# EAGLE library part MM74HC174M (library Fairchild_By_element14_Batch_1)
Hex D-Type Flip-Flops with Clear
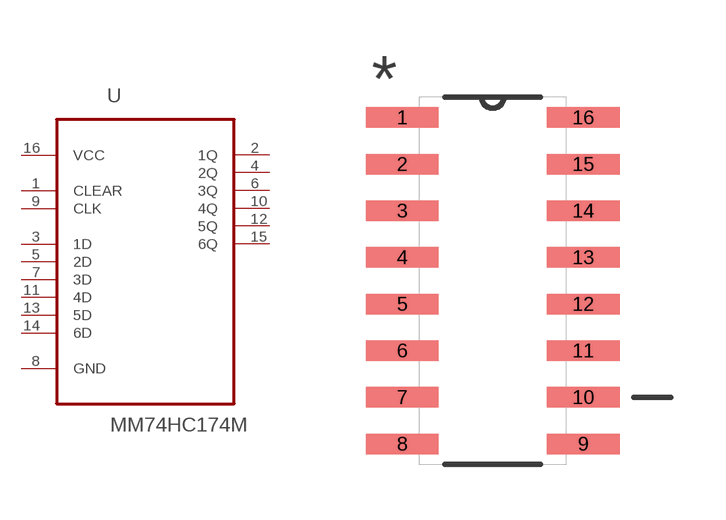
[diagram p260: symbol with the pads of SOIC127P600X175-16N; footprint SOIC127P600X175-16N]

Designator prefix U

## MM74HC174M (MPN: MM74HC174M; OC_FARNELL: 1013969; OC_NEWARK: -; PACKAGE: SOIC-16; SUPPLIER: FAIRCHILD SEMICONDUCTOR)  [SOIC127P600X175-16N]
1  CLEAR  in
2  1Q  out
3  1D  in
4  2Q  out
5  2D  in
6  3Q  out
7  3D  in
8  GND  pas
9  CLK  in
10  4Q  out
11  4D  in
12  5Q  out
13  5D  in
14  6D  in
15  6Q  out
16  VCC  pwr

## Footprint SOIC127P600X175-16N (pad centres in mm)
smd 1.981 x 0.559: 1 -2.464,4.445; 2 -2.464,3.175; 3 -2.464,1.905; 4 -2.464,0.635; 5 -2.464,-0.635; 6 -2.464,-1.905; 7 -2.464,-3.175; 8 -2.464,-4.445; 9 2.464,-4.445; 10 2.464,-3.175; 11 2.464,-1.905; 12 2.464,-0.635; 13 2.464,0.635; 14 2.464,1.905; 15 2.464,3.175; 16 2.464,4.445